# EAGLE library part DRV8303 (library OpenPMSM)
edit this description Auto generated by make-symbol-device-package-bsdl.ulp Rev. 43 Source:
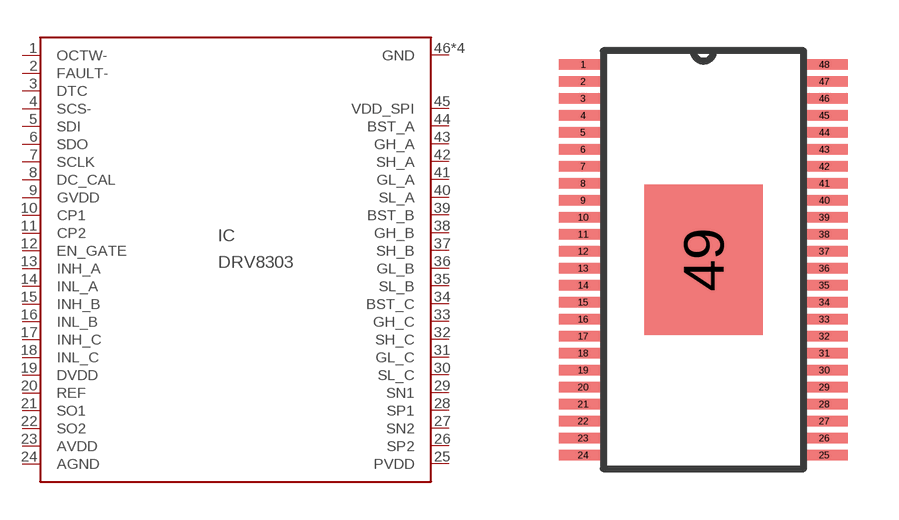
[diagram p0: symbol with the pads of HTSSOP-480-DCA; footprint HTSSOP-480-DCA]

Designator prefix IC

## DRV8303  [HTSSOP-480-DCA]
1  OCTW-  in
2  FAULT-  in
3  DTC  in
4  SCS-  in
5  SDI  in
6  SDO  out
7  SCLK  in
8  DC_CAL  pas
9  GVDD  pwr
10  CP1
11  CP2
12  EN_GATE  in
13  INH_A  in
14  INL_A  in
15  INH_B  in
16  INL_B  in
17  INH_C  in
18  INL_C  in
19  DVDD  pwr
20  REF  pas
21  SO1  in
22  SO2  in
23  AVDD  pwr
24  AGND  pwr
25  PVDD  pwr
26  SP2  pas
27  SN2  pas
28  SP1  pas
29  SN1  pas
30  SL_C  pas
31  GL_C  out
32  SH_C  pas
33  GH_C  out
34  BST_C  pas
35  SL_B  pas
36  GL_B  out
37  SH_B  pas
38  GH_B  out
39  BST_B  pas
40  SL_A  pas
41  GL_A  out
42  SH_A  pas
43  GH_A  out
44  BST_A  pas
45  VDD_SPI  pwr
46  GND  pwr
47  GND  pwr
48  GND  pwr
49  GND  pwr

## Footprint HTSSOP-480-DCA (pad centres in mm)
HTSSOP-480-DCA Auto generated by make-symbol-device-package-bsdl.ulp Rev. 43
smd 1.4 x 0.3: 1 -3.55,5.75; 2 -3.55,5.25; 3 -3.55,4.75; 4 -3.55,4.25; 5 -3.55,3.75; 6 -3.55,3.25; 7 -3.55,2.75; 8 -3.55,2.25; 9 -3.55,1.75; 10 -3.55,1.25; 11 -3.55,0.75; 12 -3.55,0.25; 13 -3.55,-0.25; 14 -3.55,-0.75; 15 -3.55,-1.25; 16 -3.55,-1.75; 17 -3.55,-2.25; 18 -3.55,-2.75; 19 -3.55,-3.25; 20 -3.55,-3.75; 21 -3.55,-4.25; 22 -3.55,-4.75; 23 -3.55,-5.25; 24 -3.55,-5.75; 25 3.55,-5.75; 26 3.55,-5.25; 27 3.55,-4.75; 28 3.55,-4.25; 29 3.55,-3.75; 30 3.55,-3.25; 31 3.55,-2.75; 32 3.55,-2.25; 33 3.55,-1.75; 34 3.55,-1.25; 35 3.55,-0.75; 36 3.55,-0.25; 37 3.55,0.25; 38 3.55,0.75; 39 3.55,1.25; 40 3.55,1.75; 41 3.55,2.25; 42 3.55,2.75; 43 3.55,3.25; 44 3.55,3.75; 45 3.55,4.25; 46 3.55,4.75; 47 3.55,5.25; 48 3.55,5.75
smd 3.48 x 4.42: 49 0,0